# EAGLE library part GWM_100-01X1 (library sc_usercreated)
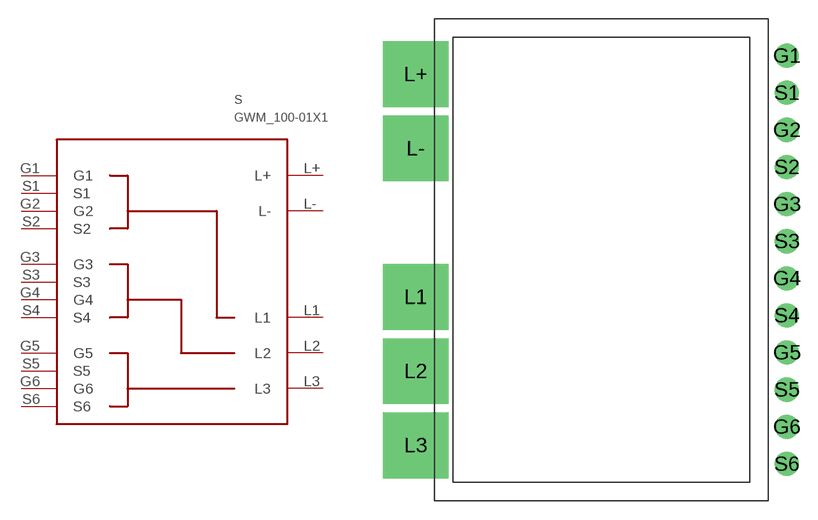
[diagram p8: symbol with the pads of GWM_100_01X1-BL; footprint GWM_100_01X1-BL]

Designator prefix S

## GWM_100-01X1  [GWM_100_01X1-BL]
G1  G1
G2  G2
G3  G3
G4  G4
G5  G5
G6  G6
L1  L1
L2  L2
L3  L3
L+  L+
L-  L-
S1  S1
S2  S2
S3  S3
S4  S4
S5  S5
S6  S6

## Footprint GWM_100_01X1-BL (pad centres in mm)
drill 1.3 round: G1 15,16.5; G2 15,10.5; G3 15,4.5; G4 15,-1.5; G5 15,-7.5; G6 15,-13.5; S1 15,13.5; S2 15,7.5; S3 15,1.5; S4 15,-4.5; S5 15,-10.5; S6 15,-16.5
drill 4.3 square: L1 -15,-3; L2 -15,-9; L3 -15,-15; L+ -15,15; L- -15,9